# EAGLE library part MOSFET_COMPLIMENTARY_PAIR (library _mtvl.transistors)
Complementary pair enhancement mode MOSFET A P and N channel MOSFET in a single package. Rated to breakdown at 20V Link to datasheet <http://www.diodes.com/_files/datasheets/DMC2700UDM.pdf> SparkFun Products: ZX Distance and Gesture Sensor <https://www.sparkfun.com/products/12780>
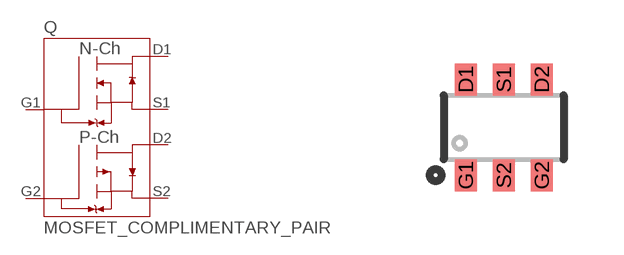
[diagram p0: symbol with the pads of SOT26; footprint SOT26]

Designator prefix Q

## MOSFET_COMPLIMENTARY_PAIR-DMC2700UDM (PROD_ID: TRANS-11993)  [SOT26]
D1  D1
D2  D2
G1  G1
G2  G2
S1  S1
S2  S2

## Footprint SOT26 (pad centres in mm)
Footprint for SOT-26 part DMP2240UDM
smd 0.55 x 0.8: D1 -0.95,1.2; D2 0.95,1.2; G1 -0.95,-1.2; G2 0.95,-1.2; S1 0,1.2; S2 0,-1.2